# EAGLE library part MIC37101 (library Mine)
1A Low-Voltage µCap LDO 1A lowdropout, linear voltage regulators
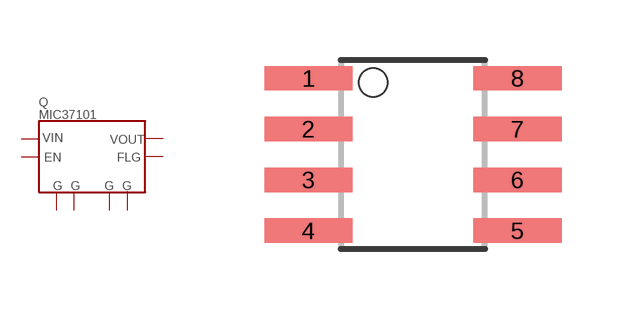
[diagram p0: symbol with the pads of SO-8; footprint SO-8]

Designator prefix Q

## MIC37101  [SO-8]
1  ENABLE
2  VIN
3  VOUT
4  FLAG
5  GND
6  GND
7  GND
8  GND

## Footprint SO-8 (pad centres in mm)
SO-8
smd 2.21 x 0.61: 1 -2.616,1.905; 2 -2.616,0.635; 3 -2.616,-0.635; 4 -2.616,-1.905; 5 2.616,-1.905; 6 2.616,-0.635; 7 2.616,0.635; 8 2.616,1.905